# Altium schematic symbol library TFCR0603-10W-E-1001BT-1K.SchLib: 1 symbol
Pins are listed as number, name and electrical type; pins without a type are passive.

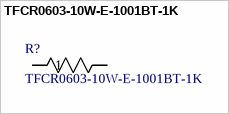
[diagram p0: symbol TFCR0603-10W-E-1001BT-1K]

## TFCR0603-10W-E-1001BT-1K
designator R?
No Description Available; Manufacturer_Name: Venkel; Copyright: Copyright (C) 2026 Ultra Librarian. All rights reserved.; Manufacturer_Part_Number: TFCR0603-10W-E-1001BT-1K
footprint RES_TFCR0603_VEN
pins: 1, 2